# Altium schematic symbol library M1.SchLib: 6 symbols
Pins are listed as number, name and electrical type; pins without a type are passive.

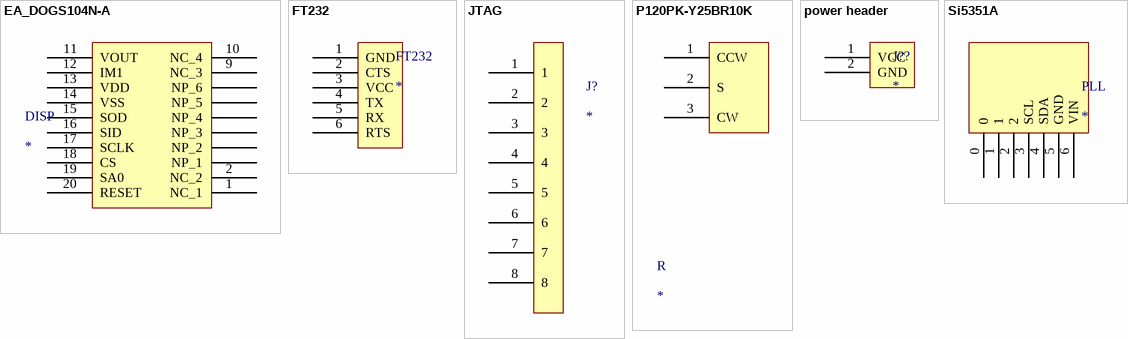
[diagram p0: symbols EA_DOGS104N-A to Si5351A]

## EA_DOGS104N-A
designator DISP
LCD display
footprint LCD (lcd display)
pins: 1 NC_1, 2 NC_2, 9 NC_3, 10 NC_4, 11 VOUT, 12 IM1, 13 VDD, 14 VSS, 15 SOD, 16 SID, 17 SCLK, 18 CS, 19 SA0, 20 RESET, ?1 NP_6, ?2 NP_5, ?3 NP_4, ?4 NP_3, ?5 NP_2, ?6 NP_1

## FT232
designator FT232
FT232
footprint FT232
pins: 1 GND, 2 CTS, 3 VCC, 4 TX, 5 RX, 6 RTS

## JTAG
designator J?
JTAG
pins: 1, 2, 3, 4, 5, 6, 7, 8

## P120PK-Y25BR10K
designator R
potentiometer
footprint potentiometer (potentiometer for knobs(PN: P120PK-Y25BR10K))
pins: 1 CCW, 2 S, 3 CW

## power header
designator J??
power header
footprint power header
pins: 1 VCC, 2 GND

## Si5351A
designator PLL
PLL
footprint Si5351A (PLL)
pins: 0, 1, 2, 3 SCL, 4 SDA, 5 GND, 6 VIN